# EAGLE library part LTM8023 (library RNH_LTM8023)
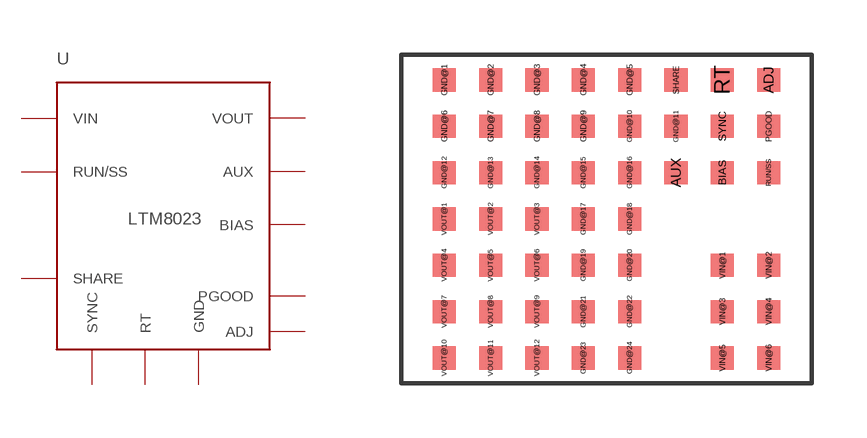
[diagram p0: symbol with the pads of LGA-50; footprint LGA-50]

Designator prefix U

## LTM8023  [LGA-50]
ADJ  ADJ
AUX  AUX
BIAS  BIAS
GND@1  GND  pwr
GND@2  GND  pwr
GND@3  GND  pwr
GND@4  GND  pwr
GND@5  GND  pwr
GND@6  GND  pwr
GND@7  GND  pwr
GND@8  GND  pwr
GND@9  GND  pwr
GND@10  GND  pwr
GND@11  GND  pwr
GND@12  GND  pwr
GND@13  GND  pwr
GND@14  GND  pwr
GND@15  GND  pwr
GND@16  GND  pwr
GND@17  GND  pwr
GND@18  GND  pwr
GND@19  GND  pwr
GND@20  GND  pwr
GND@21  GND  pwr
GND@22  GND  pwr
GND@23  GND  pwr
GND@24  GND  pwr
PGOOD  PGOOD
RT  RT
RUN/SS  RUN/SS
SHARE  SHARE
SYNC  SYNC
VIN@1  VIN
VIN@2  VIN
VIN@3  VIN
VIN@4  VIN
VIN@5  VIN
VIN@6  VIN
VOUT@1  VOUT
VOUT@2  VOUT
VOUT@3  VOUT
VOUT@4  VOUT
VOUT@5  VOUT
VOUT@6  VOUT
VOUT@7  VOUT
VOUT@8  VOUT
VOUT@9  VOUT
VOUT@10  VOUT
VOUT@11  VOUT
VOUT@12  VOUT

## Footprint LGA-50 (pad centres in mm)
smd 0.635 x 0.635: ADJ 4.445,3.81; AUX 1.905,1.27; BIAS 3.175,1.27; GND@1 -4.445,3.81; GND@2 -3.175,3.81; GND@3 -1.905,3.81; GND@4 -0.635,3.81; GND@5 0.635,3.81; GND@6 -4.445,2.54; GND@7 -3.175,2.54; GND@8 -1.905,2.54; GND@9 -0.635,2.54; GND@10 0.635,2.54; GND@11 1.905,2.54; GND@12 -4.445,1.27; GND@13 -3.175,1.27; GND@14 -1.905,1.27; GND@15 -0.635,1.27; GND@16 0.635,1.27; GND@17 -0.635,0; GND@18 0.635,0; GND@19 -0.635,-1.27; GND@20 0.635,-1.27; GND@21 -0.635,-2.54; GND@22 0.635,-2.54; GND@23 -0.635,-3.81; GND@24 0.635,-3.81; PGOOD 4.445,2.54; RT 3.175,3.81; RUN/SS 4.445,1.27; SHARE 1.905,3.81; SYNC 3.175,2.54; VIN@1 3.175,-1.27; VIN@2 4.445,-1.27; VIN@3 3.175,-2.54; VIN@4 4.445,-2.54; VIN@5 3.175,-3.81; VIN@6 4.445,-3.81; VOUT@1 -4.445,0; VOUT@2 -3.175,0; VOUT@3 -1.905,0; VOUT@4 -4.445,-1.27; VOUT@5 -3.175,-1.27; VOUT@6 -1.905,-1.27; VOUT@7 -4.445,-2.54; VOUT@8 -3.175,-2.54; VOUT@9 -1.905,-2.54; VOUT@10 -4.445,-3.81; VOUT@11 -3.175,-3.81; VOUT@12 -1.905,-3.81